# Altium footprint library Microcircuits.PcbLib: 16 footprints
Each footprint in its own frame and in the unit in brackets; x right, y up, seen from the top. Pads: shape width x height; smd on the part's side, far side on the other; paste and mask are expansions set on the pad; w line width, h text height; cw(c..) or ccw(c..) is an arc to the next point about the centre after c.
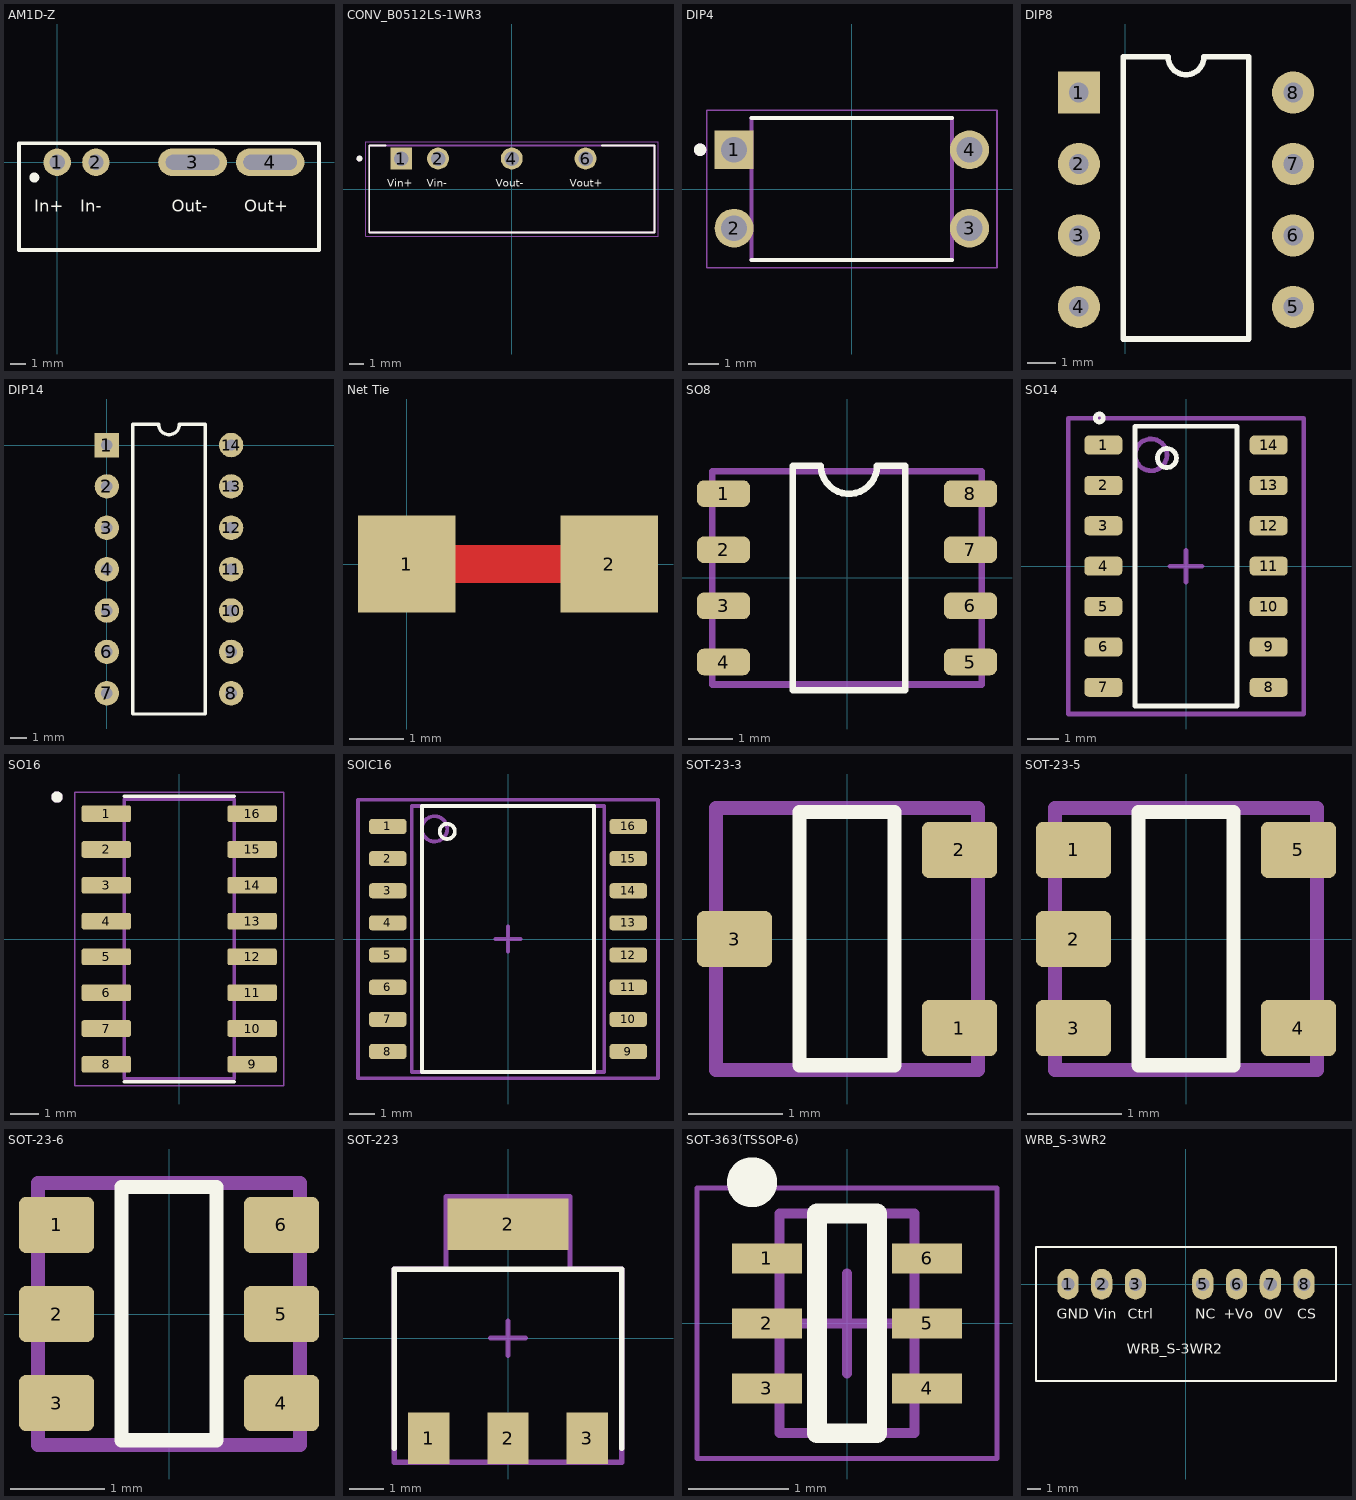
[diagram p0: the footprints below, top view; thin cyan lines are the x and y axes]

## AM1D-Z [mm]
pads (4):
  round 1.8 hole 1 unplated: 1(0,0) 2(2.54,0)
  oval 4.5x1.8 hole 1 slot 3.5 at 0 deg unplated: 3(8.87,0) 4(13.95,0)
Top Overlay:
  circle w0.4: c-1.5,-1 r0.127
  lines w0.25: -2.5,0 -2.5,-5.75 ; -2.5,-5.75 17.15,-5.75 17.15,1.25 -2.5,1.25 -2.5,-5.75
  text "Out+" at 12.25,-3.25 h0.8
  text "Out-" at 7.5,-3.25 h0.8
  text "In-" at 1.5,-3.25 h0.8
  text "In+" at -1.5,-3.25 h0.8

## CONV_B0512LS-1WR3 [mm]
pads (4):
  rect 1.508x1.508 hole 1: 1(-7.62,2.1)
  round 1.508 hole 1: 2(-5.08,2.1) 4(0,2.1) 6(5.08,2.1)
Top Overlay:
  circle w0.2: c-10.5,2.1 r0.1
  lines w0.127: -8.7,3 -9.825,3 -9.825,-3 9.825,-3 9.825,3 6.2,3
  text "Vin+" at -8.6,0.15 h0.54
  text "Vin-" at -5.85,0.15 h0.54
  text "Vout-" at -1.1,0.15 h0.54
  text "Vout+" at 3.98,0.15 h0.54
Mechanical 13:
  circle w0.2: c-10.5,2.1 r0.1
  lines w0.127: -9.825,-3 9.825,-3 9.825,3 -9.825,3 -9.825,-3
Mechanical 15:
  lines w0.05: -10.075,-3.25 -10.075,3.25 10.075,3.25 10.075,-3.25 -10.075,-3.25

## DIP4 [mm]
pads (4):
  rect 1.26x1.26 hole 0.84: 1(-3.81,1.27)
  round 1.26 hole 0.84: 2(-3.81,-1.27) 3(3.81,-1.27) 4(3.81,1.27)
Top Overlay:
  circle w0.2: c-4.91,1.27 r0.1
  lines w0.127: -3.25,-2.3 3.25,-2.3 ; -3.25,2.3 3.25,2.3
Mechanical 13:
  circle w0.2: c-4.91,1.27 r0.1
  lines w0.127: -3.25,-2.3 3.25,-2.3 3.25,2.3 -3.25,2.3 -3.25,-2.3
Mechanical 15:
  lines w0.05: -4.7,-2.55 4.7,-2.55 4.7,2.55 -4.7,2.55 -4.7,-2.55

## DIP8 [mm]
pads (8):
  rect 1.5x1.5 hole 0.7: 1(-1.651,16.51)
  round 1.5 hole 0.7: 2(-1.651,13.97) 3(-1.651,11.43) 4(-1.651,8.89) 5(5.969,8.89) 6(5.969,11.43) 7(5.969,13.97) 8(5.969,16.51)
Top Overlay:
  lines w0.2: -0.066,7.747 4.384,7.747 4.384,17.78 2.794,17.78 cw(c2.159,17.78) 1.524,17.78 -0.066,17.78 -0.066,7.747
3D body "dip-8.step": height 4.2, standoff -2, extent -1.801,7.6 6.119,17.8

## DIP14 [mm]
pads (14):
  rect 1.5x1.5 hole 0.7: 1(0,0)
  round 1.5 hole 0.7: 2(0,-2.54) 3(0,-5.08) 4(0,-7.62) 5(0,-10.16) 6(0,-12.7) 7(0,-15.24) 8(7.62,-15.24) 9(7.62,-12.7) 10(7.62,-10.16) 11(7.62,-7.62) 12(7.62,-5.08) 13(7.62,-2.54) 14(7.62,0)
Top Overlay:
  lines w0.2: 1.585,-16.51 1.585,1.27 3.175,1.27 ccw(c3.81,1.27) 4.445,1.27 6.035,1.27 6.035,-16.51 1.585,-16.51

## Net Tie [mm]
pads (2):
  rect 1.8x1.8 smd: 1(0,0) 2(3.75,0)
Top Layer:
  lines w0.7: 0,0 3.75,0

## SO8 [mm]
pads (8):
  rrect50% 1.2x0.6 smd: 1(-2.794,1.905) 2(-2.794,0.635) 3(-2.794,-0.635) 4(-2.794,-1.905) 5(2.794,-1.905) 6(2.794,-0.635) 7(2.794,0.635) 8(2.794,1.905)
Top Overlay:
  lines w0.15: -1.226,-2.545 1.314,-2.545 1.314,2.535 0.679,2.535 cw(c0.044,2.535) -0.591,2.535 -1.226,2.535 -1.226,-2.545
  text "." at -2.7,2.8 h0.1
Top Courtyard:
  lines w0.15: -3.048,-2.413 3.048,-2.413 3.048,2.413 -3.048,2.413 -3.048,-2.413
3D body "User Library-so8-4.STEP": height 1.76, standoff 0, extent -3.068,-2.445 3.068,2.445

## SO14 [mm]
pads (14):
  rrect50% 1.2x0.6 smd: 1(-2.6,3.81) 2(-2.6,2.54) 3(-2.6,1.27) 4(-2.6,0) 5(-2.6,-1.27) 6(-2.6,-2.54) 7(-2.6,-3.81) 8(2.6,-3.81) 9(2.6,-2.54) 10(2.6,-1.27) 11(2.6,0) 12(2.6,1.27) 13(2.6,2.54) 14(2.6,3.81)
Top Overlay:
  circle w0.15: c-0.6,3.4 r0.3
  circle w0.15: c-2.725,4.66 r0.125
  lines w0.15: -1.6,-4.4 1.6,-4.4 1.6,4.4 -1.6,4.4 -1.6,-4.4
Top Courtyard:
  lines w0.15: -0.5,0 0.5,0 ; 0,-0.5 0,0.5 ; -3.7,-4.65 3.7,-4.65 3.7,4.65 -3.7,4.65 -3.7,-4.65
Mechanical 13:
  circle w0.15: c-1.1,3.5 r0.5
3D body "SO-14N.step": height 1.75, standoff 0, extent -3,-4.4 3,4.4

## SO16 [mm]
pads (16):
  rrect25% 1.75x0.59 smd: 1(-2.585,4.445) 2(-2.585,3.175) 3(-2.585,1.905) 4(-2.585,0.635) 5(-2.585,-0.635) 6(-2.585,-1.905) 7(-2.585,-3.175) 8(-2.585,-4.445) 9(2.585,-4.445) 10(2.585,-3.175) 11(2.585,-1.905) 12(2.585,-0.635) 13(2.585,0.635) 14(2.585,1.905) 15(2.585,3.175) 16(2.585,4.445)
Top Overlay:
  circle w0.2: c-4.335,5.035 r0.1
  lines w0.127: -1.95,-5.06 1.95,-5.06 ; -1.95,5.06 1.95,5.06
Mechanical 13:
  circle w0.2: c-4.335,5.035 r0.1
  lines w0.127: -1.95,-4.95 1.95,-4.95 1.95,4.95 -1.95,4.95 -1.95,-4.95
Mechanical 15:
  lines w0.05: -3.71,-5.2 3.71,-5.2 3.71,5.2 -3.71,5.2 -3.71,-5.2
3D body "step_temp.STEP": height 1.75, standoff 0, extent -3,-4.95 3,4.95

## SOIC16 [mm]
pads (16):
  rrect50% 1.5x0.6 smd: 1(-4.75,4.445) 2(-4.75,3.175) 3(-4.75,1.905) 4(-4.75,0.635) 5(-4.75,-0.635) 6(-4.75,-1.905) 7(-4.75,-3.175) 8(-4.75,-4.445) 9(4.75,-4.445) 10(4.75,-3.175) 11(4.75,-1.905) 12(4.75,-0.635) 13(4.75,0.635) 14(4.75,1.905) 15(4.75,3.175) 16(4.75,4.445)
Top Overlay:
  circle w0.15: c-2.4,4.25 r0.3
  lines w0.15: -3.4,-5.25 3.4,-5.25 3.4,5.25 -3.4,5.25 -3.4,-5.25
  text "." at -5.5,5.4 h0.1
Top Courtyard:
  lines w0.15: -0.5,0 0.5,0 ; 0,-0.5 0,0.5 ; -5.925,-5.5 5.925,-5.5 5.925,5.5 -5.925,5.5 -5.925,-5.5
Mechanical 13:
  circle w0.15: c-2.9,4.35 r0.5
  lines w0.15: -3.8,-5.25 3.8,-5.25 3.8,5.25 -3.8,5.25 -3.8,-5.25
3D body "SOIC16W.step": height 2.65, standoff 0, extent -5.162,-5.25 5.162,5.25

## SOT-23-3 [mm]
pads (3):
  rrect25% 0.8x0.6 smd: 1(1.2,-0.95) 2(1.2,0.95) 3(-1.2,0)
Top Overlay:
  lines w0.15: -0.508,-1.347 -0.508,1.353 0.508,1.353 0.508,-1.347 -0.508,-1.347
Top Courtyard:
  lines w0.15: -1.397,-1.397 -1.397,1.397 1.397,1.397 1.397,-1.397 -1.397,-1.397
3D body "SOT23-5.STEP": height 1.44, standoff -0.01, extent -1.4,-1.45 1.4,1.45

## SOT-23-5 [mm]
pads (5):
  rrect25% 0.8x0.6 smd: 1(-1.2,0.95) 2(-1.2,0) 3(-1.2,-0.95) 4(1.2,-0.95) 5(1.2,0.95)
Top Overlay:
  lines w0.15: -0.508,-1.347 0.508,-1.347 0.508,1.353 -0.508,1.353 -0.508,-1.347
Top Courtyard:
  lines w0.15: -1.397,-1.397 1.397,-1.397 1.397,1.397 -1.397,1.397 -1.397,-1.397
3D body "SOT23-5.STEP": height 1.44, standoff -0.01, extent -1.4,-1.45 1.4,1.45

## SOT-23-6 [mm]
pads (6):
  rrect25% 0.8x0.6 smd: 1(-1.2,0.95) 2(-1.2,0) 3(-1.2,-0.95) 4(1.2,-0.95) 5(1.2,0) 6(1.2,0.95)
Top Overlay:
  lines w0.15: -0.508,-1.347 0.508,-1.347 0.508,1.353 -0.508,1.353 -0.508,-1.347
Top Courtyard:
  lines w0.15: -1.397,-1.397 1.397,-1.397 1.397,1.397 -1.397,1.397 -1.397,-1.397
3D body "SOT23-5.STEP": height 1.44, standoff -0.01, extent -1.4,-1.45 1.4,1.45

## SOT-223 [mm]
pads (4):
  rect 1.2x1.5 smd: 1(-2.3,-2.9) 2(0,-2.9) 3(2.3,-2.9)
  rect 3.5x1.5 smd: 2(0,3.3)
Top Overlay:
  lines w0.15: -3.3,-3.2 -3.3,2 0,2 3.3,2 3.3,-3.2
  text "." at -3.6,-3.7 h0.1
Top Courtyard:
  lines w0.15: -0.5,0 0.5,0 ; 0,-0.5 0,0.5 ; -3.3,-3.6 3.3,-3.6 3.3,-2.6 3.3,2 1.8,2 1.8,4.1 -1.8,4.1 -1.8,2 -3.3,2 -3.3,-3.6
3D body "SW3dPS-SOT-223-1.STEP": height 1.64, standoff -0.01, extent -3.25,-3.398 3.25,3.602

## SOT-363(TSSOP-6) [mm] "SOT363, 6-Leads, Body 2.00x2.10mm, Pitch 0.65mm, IPC Medium Density"
height 1.1
pads (6):
  rect 0.7x0.3 smd: 1(-0.8,0.65) 2(-0.8,0) 3(-0.8,-0.65) 4(0.8,-0.65) 5(0.8,0) 6(0.8,0.65)
Top Overlay:
  circle w0.25: c-0.95,1.41 r0.125
  lines w0.2: -0.3,-1.1 -0.3,1.1 0.3,1.1 0.3,-1.1 -0.3,-1.1
Mechanical 13:
  lines w0.1: -0.675,-1.1 0.675,-1.1 0.675,1.1 -0.675,1.1 -0.675,-1.1
Mechanical 15:
  lines w0.05: -1.5,-1.35 1.5,-1.35 1.5,1.35 -1.5,1.35 -1.5,-1.35
  lines w0.1: -0.5,0 0.5,0 ; 0,-0.5 0,0.5
3D body "SOT-363.STEP": height 1.05, standoff 0, extent -1.058,-1.1 1.058,1.1

## WRB_S-3WR2 [mm]
pads (7):
  oval 1.6x2.3 hole 1: 1(-8.89,0) 2(-6.35,0) 3(-3.81,0) 5(1.27,0) 6(3.81,0) 7(6.35,0) 8(8.89,0)
Top Overlay:
  lines w0.127: -11.3,-7.3 11.3,-7.3 11.3,2.8 -11.3,2.8 -11.3,-7.3
  text "NC" at 0.686,-2.608 h0.76
  text "Ctrl" at -4.381,-2.608 h0.76
  text "Vin" at -6.921,-2.608 h0.76
  text "WRB_S-3WR2" at -4.455,-5.232 h0.76
  text "GND" at -9.728,-2.608 h0.76
  text "0V" at 5.911,-2.608 h0.76
  text "CS" at 8.377,-2.608 h0.76
  text "+Vo" at 2.848,-2.608 h0.76
3D body "WRA_S-3WR2.stp": height 12, standoff -4.1, extent -11,-6.909 11,2.591